# Altium schematic symbol library AMS1117 breakout.SchLib: 5 symbols
Pins are listed as number, name and electrical type; pins without a type are passive.

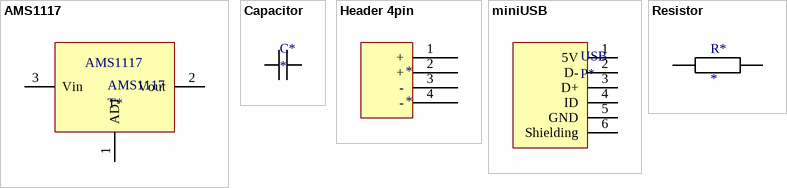
[diagram p0: symbols AMS1117 to Resistor]

## AMS1117
designator AMS1117, comment T*
pins: 1 ADJ, 2 Vout, 3 Vin

## Capacitor
designator C*
pins: 1, 2

## Header 4pin
designator *
pins: 1 +, 2 +, 3 -, 4 -

## miniUSB
designator USB, comment P*
pins: 1 5V, 2 D-, 3 D+, 4 ID, 5 GND, 6 Shielding

## Resistor
designator R*
pins: 1, 2